# Altium schematic symbol library NCP18XH103F03RB.SchLib: 1 symbol
Pins are listed as number, name and electrical type; pins without a type are passive.

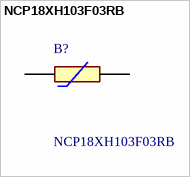
[diagram p0: symbol NCP18XH103F03RB]

## NCP18XH103F03RB
designator B?
Thermistor NTC 10K Ohm 1% 2-Pin 0603 Surface Mount Solder Pad 3434K T/R; Manufacturer_Name: Murata Electronics; Geometry.Height: 0.95mm; Mouser Part Number: 81-NCP18XH103F03RB; Mouser Price/Stock: https://www.mouser.co.uk/ProductDetail/Murata-Electronics/NCP18XH103F03RB?qs=k3rQb2PKXqkF9YvF09qsvw%3D%3D; Manufacturer_Part_Number: NCP18XH103F03RB; Datasheet Link: https://componentsearchengine.com/Datasheets/2/NCP18XH103F03RB.pdf
footprint THRMC1608X95N
pins: 1, 2